# Altium footprint library Wurth_Elektronik_Passive_rev16a.PCBLIB: 810 footprints (part 25 of 51)
Each footprint in its own frame and in the unit in brackets; x right, y up, seen from the top. Pads: shape width x height; smd on the part's side, far side on the other; paste and mask are expansions set on the pad; w line width, h text height; cw(c..) or ccw(c..) is an arc to the next point about the centre after c.
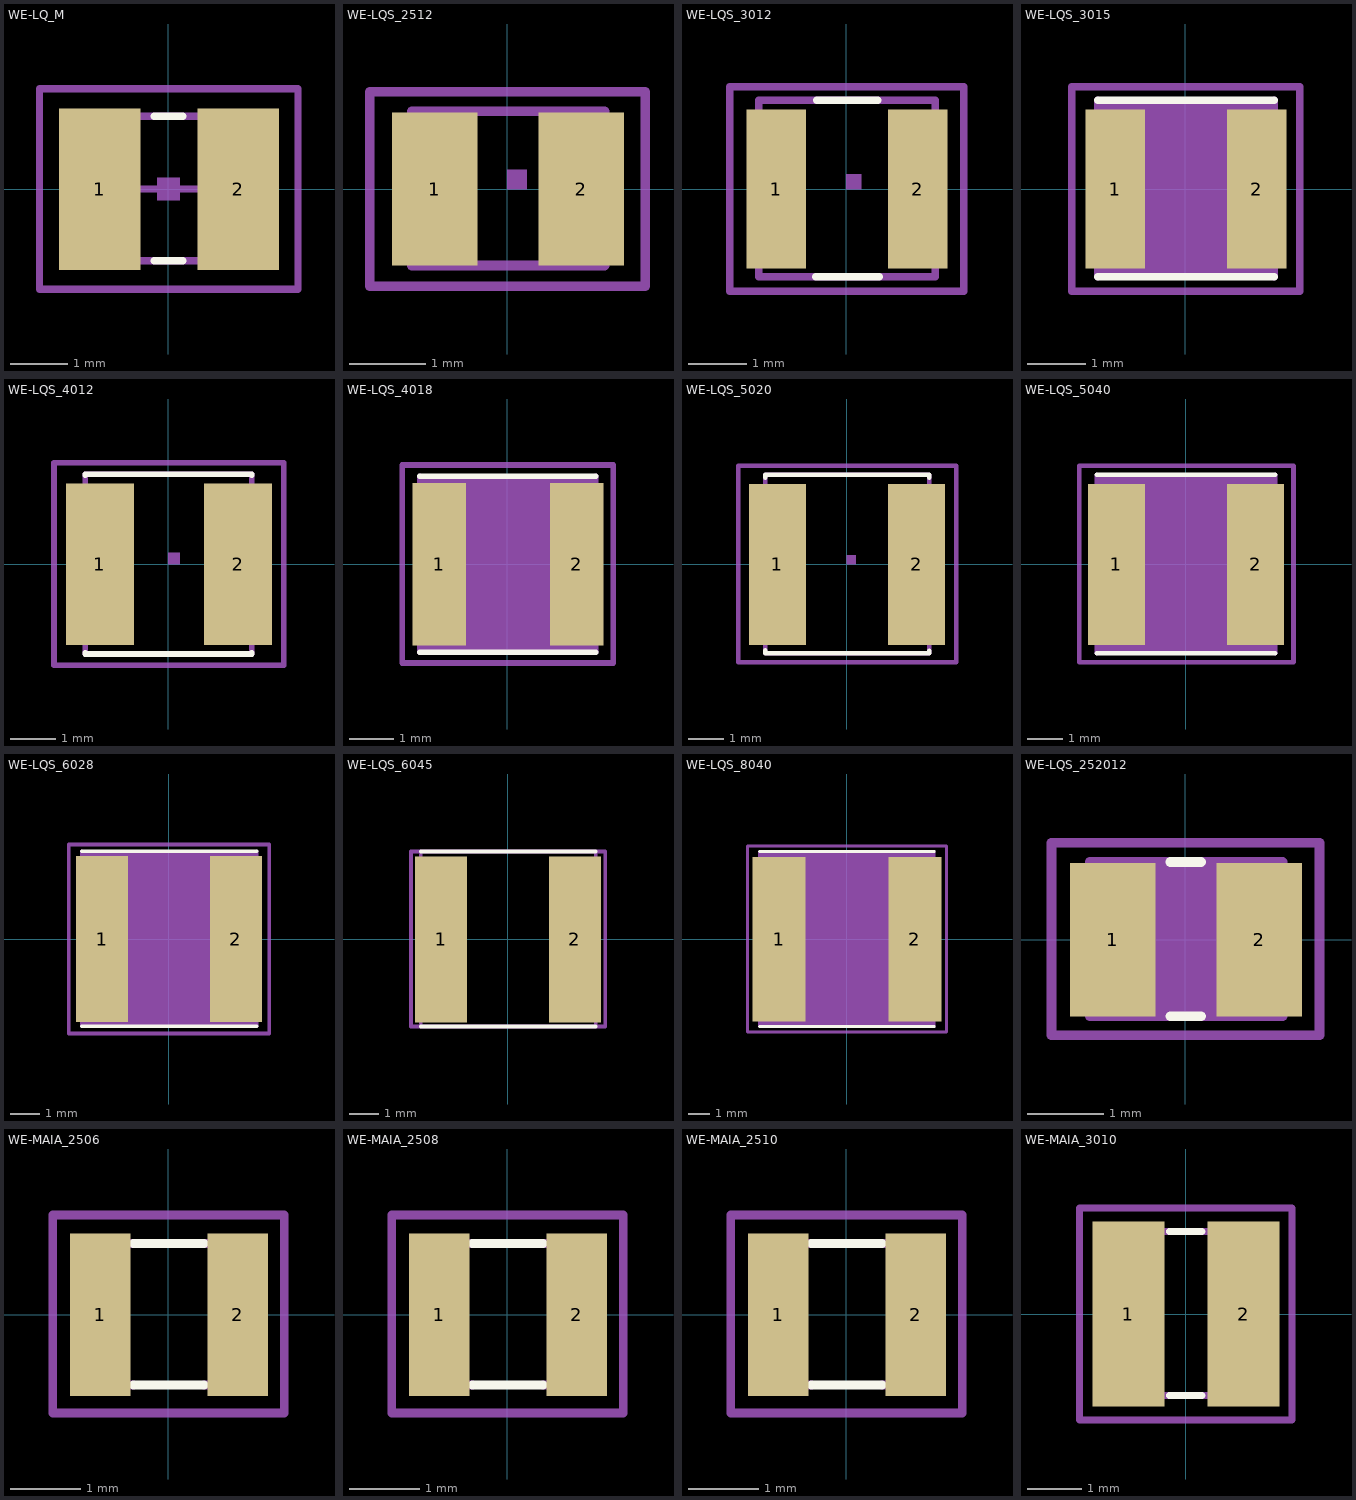
[diagram p24: the footprints below, top view; thin cyan lines are the x and y axes]

## WE-LQ_M [mil]
pads (2):
  rect 56x111 smd: 1(-47.24,0) 2(48,0)
Top Overlay:
  lines w5: -9.84,-49.21 10,-49.21 ; -9.84,50 10,50
Mechanical 2:
  text ">NAME" at -75,-139.37 h77.5
Mechanical 4:
  text ">VALUE" at -75,75 h77.5
Mechanical 16:
  rectangle: -7.87,-7.87 8,8
  lines w5: -47.24,0 48,0 ; -62.99,-49.21 63,-49.21 63,50 -62.99,50 -62.99,-49.21
Mechanical 27:
  lines w5: -88.58,-68.9 -88.58,69 89,69 89,-68.9 -88.58,-68.9

## WE-LQS_2512 [mil]
pads (2):
  rect 44x79 smd: 1(-37.4,0) 2(38,0)
Mechanical 2:
  text ">Name" at -96.06,69 h62
Mechanical 4:
  text ">Value" at -88.19,-106.69 h62
Mechanical 10:
  region: 0,0 10,0 10,10 0,10
Mechanical 16:
  lines w5: -49.21,-39.37 50,-39.37 50,40 -49.21,40 -49.21,-39.37
Mechanical 27:
  lines w5: -70.87,-50 71,-50 71,50 -70.87,50 -70.87,-50

## WE-LQS_3012 [mil]
pads (2):
  rect 40x107 smd: 1(-47.24,0) 2(48,0)
Top Overlay:
  lines w5: -20.87,-59.06 22,-59.06 ; -20.08,60 21,60
Mechanical 2:
  text ">Name" at -96.06,85 h62
Mechanical 4:
  text ">Value" at -88.19,-126.38 h62
Mechanical 10:
  region: 0,0 10,0 10,10 0,10
Mechanical 16:
  lines w5: -59.06,-59.06 60,-59.06 60,60 -59.06,60 -59.06,-59.06
Mechanical 27:
  lines w5: -78.74,-68.9 79,-68.9 79,69 -78.74,69 -78.74,-68.9

## WE-LQS_3015 [mil]
pads (2):
  rect 40x107 smd: 1(-47.24,0) 2(48,0)
Top Overlay:
  lines w5: -59.06,-59.06 60,-59.06 ; -59.06,60 60,60
Mechanical 2:
  text ">NAME" at -63.98,128 h77.5
Mechanical 4:
  text ">VALUE" at -63.98,-127.95 h77.5
Mechanical 10:
  rectangle: -59.06,-59.06 60,60
Mechanical 16:
  lines w5: -59.06,-59.06 -59.06,60 ; 60,-59.06 60,60
Mechanical 27:
  lines w5: -76.77,-68.9 -76.77,69 77,69 77,-68.9 -76.77,-68.9

## WE-LQS_4012 [mil]
pads (2):
  rect 60x142 smd: 1(-60.04,0) 2(61,0)
Top Overlay:
  lines w5: -72.83,-77.56 -72.83,-78.74 73,-78.74 73,-77.56 ; -72.83,78 -72.83,79 73,79 73,78
Mechanical 2:
  text ">Name" at -92.13,120 h62
Mechanical 4:
  text ">Value" at -83.86,-148.82 h62
Mechanical 10:
  region: 0,0 10,0 10,10 0,10
Mechanical 16:
  lines w5: -72.83,-78.74 73,-78.74 73,79 -72.83,79 -72.83,-78.74
Mechanical 27:
  lines w5: -100.39,-88.58 101,-88.58 101,89 -100.39,89 -100.39,-88.58

## WE-LQS_4018 [mil]
pads (2):
  rect 48x146 smd: 1(-61.02,0) 2(62,0)
Top Overlay:
  lines w5: -78.74,-78.74 79,-78.74 ; -78.74,79 79,79
Mechanical 2:
  text ">NAME" at -88.58,133 h77.5
Mechanical 4:
  text ">VALUE" at -88.58,-177.17 h77.5
Mechanical 10:
  rectangle: -78.74,-78.74 79,79
Mechanical 16:
  lines w5: -78.74,-78.74 -78.74,79 ; 79,-78.74 79,79
Mechanical 27:
  lines w5: -94.49,-88.58 -94.49,89 95,89 95,-88.58 -94.49,-88.58

## WE-LQS_5020 [mil]
pads (2):
  rect 63x178 smd: 1(-76.77,0) 2(77,0)
Top Overlay:
  lines w5: -90.55,-95.28 -90.55,-98.43 91,-98.43 91,-95.67 ; -90.55,96 -90.55,99 91,99 91,96
Mechanical 2:
  text ">Name" at -106.3,138 h77.5
Mechanical 4:
  text ">Value" at -98.43,-181.1 h77.5
Mechanical 10:
  region: 0,0 10,0 10,10 0,10
Mechanical 16:
  lines w5: -90.55,-98.43 91,-98.43 91,99 -90.55,99 -90.55,-98.43
Mechanical 27:
  lines w5: -120.08,-108.27 121,-108.27 121,109 -120.08,109 -120.08,-108.27

## WE-LQS_5040 [mil]
pads (2):
  rect 63x178 smd: 1(-76.77,0) 2(77,0)
Top Overlay:
  lines w5: -98.43,-98.43 99,-98.43 ; -98.43,99 99,99
Mechanical 2:
  text ">NAME" at -98.43,164 h77.5
Mechanical 4:
  text ">VALUE" at -98.43,-196.85 h77.5
Mechanical 10:
  rectangle: -98.43,-98.43 99,99
Mechanical 16:
  lines w5: -98.43,-98.43 -98.43,99 ; 99,-98.43 99,99
Mechanical 27:
  lines w5: -118.11,-108.27 -118.11,109 119,109 119,-108.27 -118.11,-108.27

## WE-LQS_6028 [mil]
pads (2):
  rect 71x225 smd: 1(-90.55,0) 2(91,0)
Top Overlay:
  lines w5: -118.11,-118.11 119,-118.11 ; -118.11,119 119,119
Mechanical 2:
  text ">NAME" at -118.11,203 h77.5
Mechanical 4:
  text ">VALUE" at -118.11,-236.22 h77.5
Mechanical 10:
  rectangle: -118.11,-118.11 119,119
Mechanical 16:
  lines w5: -118.11,-118.11 -118.11,119 ; 119,-118.11 119,119
Mechanical 27:
  lines w5: -135.83,-127.95 -135.83,128 136,128 136,-127.95 -135.83,-127.95

## WE-LQS_6045 [mil]
pads (2):
  rect 71x225 smd: 1(-90.55,0) 2(91,0)
Top Overlay:
  lines w5: -118.11,-118.11 119,-118.11 ; -118.11,119 119,119
Mechanical 2:
  text ">NAME" at -150,150 h77.5
  text ">VALUE" at -150,-200 h77.5
Mechanical 16:
  lines w5: -118.11,-118.11 -118.11,119 ; 119,-118.11 119,119
Mechanical 27:
  lines w5: -131.3,-118.11 132,-118.11 132,119 -131.3,119 -131.3,-118.11

## WE-LQS_8040 [mil]
pads (2):
  rect 95x296 smd: 1(-122.05,0) 2(123,0)
Top Overlay:
  lines w5: -157.48,-157.48 158,-157.48 ; -157.48,158 158,158
Mechanical 2:
  text ">NAME" at -217.32,185 h77.5
Mechanical 4:
  text ">VALUE" at -167.32,-234.25 h77.5
Mechanical 10:
  rectangle: -157.48,-157.48 158,158
Mechanical 16:
  lines w5: -157.48,-157.48 -157.48,158 ; 158,-157.48 158,158
Mechanical 27:
  lines w5: -179.13,-167.32 -179.13,168 180,168 180,-167.32 -179.13,-167.32

## WE-LQS_252012 [mil]
pads (2):
  rect 44x79 smd: 1(-37.4,0) 2(38,0)
Top Overlay:
  lines w5: -7.87,-39.37 8,-39.37 ; -7.87,40 8,40
Mechanical 2:
  text ">NAME" at -59.06,119 h77.5
Mechanical 4:
  text ">VALUE" at -59.06,-118.11 h77.5
Mechanical 10:
  rectangle: -49.21,-39.37 50,40
Mechanical 16:
  lines w5: -49.21,-39.37 50,-39.37 50,40 -49.21,40 -49.21,-39.37
Mechanical 27:
  lines w5: -68.9,-49.21 -68.9,50 69,50 69,-49.21 -68.9,-49.21

## WE-MAIA_2506 [mil]
pads (2):
  rect 34x91 smd: 1(-38.39,0) 2(39,0)
Top Overlay:
  lines w5: -19.68,-39.37 20,-39.37 ; -19.68,40 20,40
Mechanical 2:
  text ">NAME" at -50,100 h77.5
Mechanical 4:
  text ">VALUE" at -50,-150 h77.5
Mechanical 16:
  lines w5: -19.68,-39.37 -49.21,-39.37 -49.21,40 -19.68,40 ; 20,-39.37 50,-39.37 50,40 20,40
Mechanical 27:
  lines w5: -64.96,-55.12 65,-55.12 65,56 -64.96,56 -64.96,-55.12

## WE-MAIA_2508 [mil]
pads (2):
  rect 34x91 smd: 1(-38.39,0) 2(39,0)
Top Overlay:
  lines w5: -19.68,-39.37 20,-39.37 ; -19.68,40 20,40
Mechanical 2:
  text ">NAME" at -50,100 h77.5
Mechanical 4:
  text ">VALUE" at -50,-150 h77.5
Mechanical 16:
  lines w5: -19.68,-39.37 -49.21,-39.37 -49.21,40 -19.68,40 ; 20,-39.37 50,-39.37 50,40 20,40
Mechanical 27:
  lines w5: -64.96,-55.12 65,-55.12 65,56 -64.96,56 -64.96,-55.12

## WE-MAIA_2510 [mil]
pads (2):
  rect 34x91 smd: 1(-38.39,0) 2(39,0)
Top Overlay:
  lines w5: -19.68,-39.37 20,-39.37 ; -19.68,40 20,40
Mechanical 2:
  text ">NAME" at -50,100 h77.5
Mechanical 4:
  text ">VALUE" at -50,-150 h77.5
Mechanical 16:
  lines w5: -19.68,-39.37 -49.21,-39.37 -49.21,40 -19.68,40 ; 20,-39.37 50,-39.37 50,40 20,40
Mechanical 27:
  lines w5: -64.96,-55.12 65,-55.12 65,56 -64.96,56 -64.96,-55.12

## WE-MAIA_3010 [mil]
pads (2):
  rect 52x134 smd: 1(-41.34,0) 2(42,0)
Top Overlay:
  lines w5: -11.81,-59.06 12,-59.06 ; -11.81,60 12,60
Mechanical 2:
  text ">NAME" at -76.77,100 h77.5
Mechanical 4:
  text ">VALUE" at -76.77,-150 h77.5
Mechanical 16:
  lines w5: -11.81,-59.06 -59.06,-59.06 -59.06,60 -11.81,60 ; 12,-59.06 60,-59.06 60,60 12,60
Mechanical 27:
  lines w5: -76.77,-76.77 77,-76.77 77,77 -76.77,77 -76.77,-76.77